# EAGLE library part HX1188 (library pulse-eng)
Transformer- H110X, H1121, HX1188
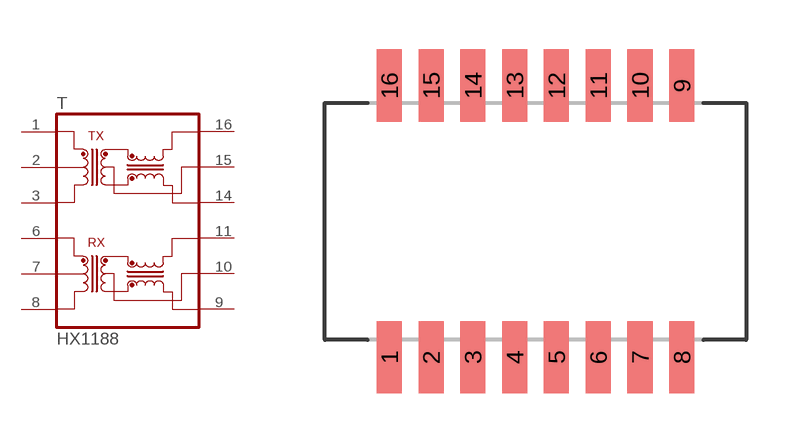
[diagram p30: symbol with the pads of HXXXX; footprint HXXXX]

Designator prefix T

## HX1188 (P1I: o)  [HXXXX]
1  1  pas
2  2  pas
3  3  pas
6  6  pas
7  7  pas
8  8  pas
9  9  pas
10  10  pas
11  11  pas
14  14  pas
15  15  pas
16  16  pas

## Footprint HXXXX (pad centres in mm)
Pulse Engineering H110X, H1121, H1183, H1199, HX1188, HX1198, H1302
smd 0.76 x 2.2: 1 -4.445,-4.128; 2 -3.175,-4.128; 3 -1.905,-4.128; 4 -0.635,-4.128; 5 0.635,-4.128; 6 1.905,-4.128; 7 3.175,-4.128; 8 4.445,-4.128; 9 4.445,4.128; 10 3.175,4.128; 11 1.905,4.128; 12 0.635,4.128; 13 -0.635,4.128; 14 -1.905,4.128; 15 -3.175,4.128; 16 -4.445,4.128